# Altium footprint library SOT-23.PcbLib: 1 footprints
Each footprint in its own frame and in the unit in brackets; x right, y up, seen from the top. Pads: shape width x height; smd on the part's side, far side on the other; paste and mask are expansions set on the pad; w line width, h text height; cw(c..) or ccw(c..) is an arc to the next point about the centre after c.
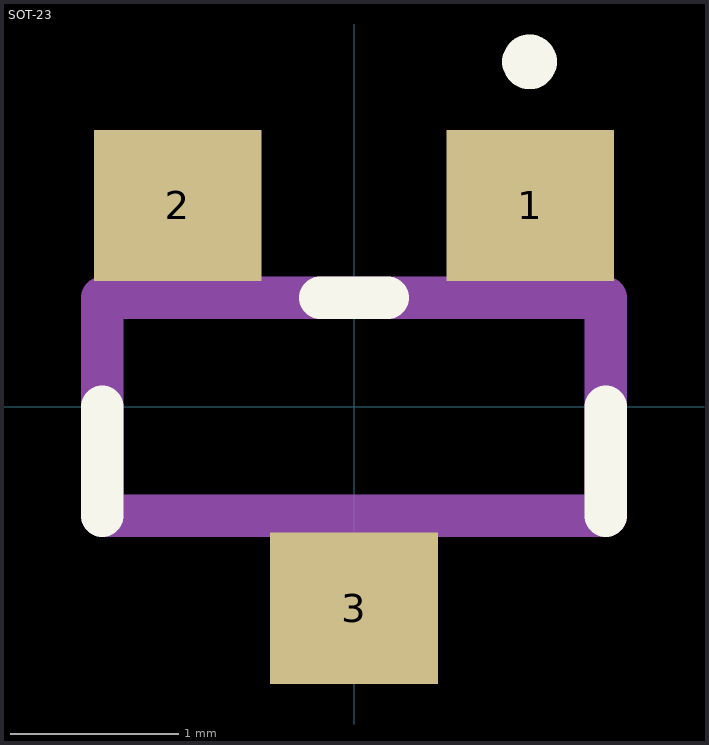
[diagram p0: the footprint, top view; thin cyan lines are the x and y axes]

## SOT-23 [mm]
pads (3):
  rect 1x0.9 smd: 1(1.05,1.2) 2(-1.05,1.2) 3(0,-1.2)
L26-Silk Screen Top (Multiple PADS layers...):
  circle w0.254: c1.046,2.055 r0.036
  lines w0.254: -1.5,-0.65 -1.5,0 ; -0.2,0.65 0.2,0.65 ; 1.5,-0.65 1.5,0
L15 (Multiple PADS layers...):
  lines w0.254: -1.5,-0.65 1.5,-0.65 1.5,0.65 -1.5,0.65 -1.5,-0.65